# Altium schematic symbol library RF.Detectors.SchLib: 5 symbols
Pins are listed as number, name and electrical type; pins without a type are passive.

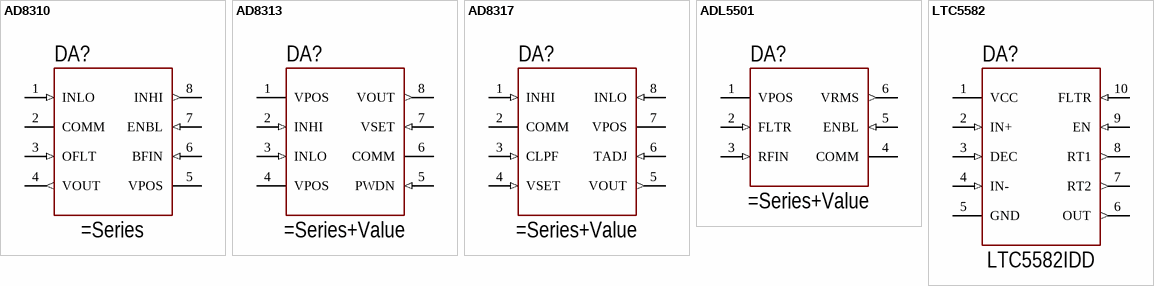
[diagram p0: symbols AD8310 to LTC5582]

## AD8310
designator DA?
Fast, Voltage-Out, DC to 440 MHz, 95 dB Logarithmic Amplifier
pins: 1 INLO (in), 2 COMM, 3 OFLT (in), 4 VOUT (out), 5 VPOS, 6 BFIN (in), 7 ENBL (in), 8 INHI (out)

## AD8313
designator DA?
0.1 GHz to 2.5 GHz, 70 dB Logarithmic Detector/Controller
pins: 1 VPOS, 2 INHI (in), 3 INLO (in), 4 VPOS, 5 PWDN (in), 6 COMM, 7 VSET (in), 8 VOUT (out)

## AD8317
designator DA?
1 MHz to 10 GHz, 55 dB Logarithmic Detector/Controller; Seires: *; Value: *
pins: 1 INHI (in), 2 COMM, 3 CLPF (in), 4 VSET (in), 5 VOUT (out), 6 TADJ (in), 7 VPOS, 8 INLO (in), PAD GND hidden to GND

## ADL5501
designator DA?
50 MHz to 6 GHz Power Detector
pins: 1 VPOS, 2 FLTR (in), 3 RFIN (in), 4 COMM, 5 ENBL (in), 6 VRMS (out)

## LTC5582
designator DA?, comment LTC5582IDD
40MHz to 10GHz RMS Power Detector with 57dB Dynamic Range; Package: IDD; Part: LTC5582
pins: 1 VCC, 2 IN+ (in), 3 DEC (in), 4 IN- (in), 5 GND, 6 OUT (out), 7 RT2 (out), 8 RT1 (out), 9 EN (in), 10 FLTR (in), PAD GND (power) hidden to GND